# Altium integrated library TI Data Converters Digital to Analog Converter.IntLib: 1533 symbols (part 89 of 99)
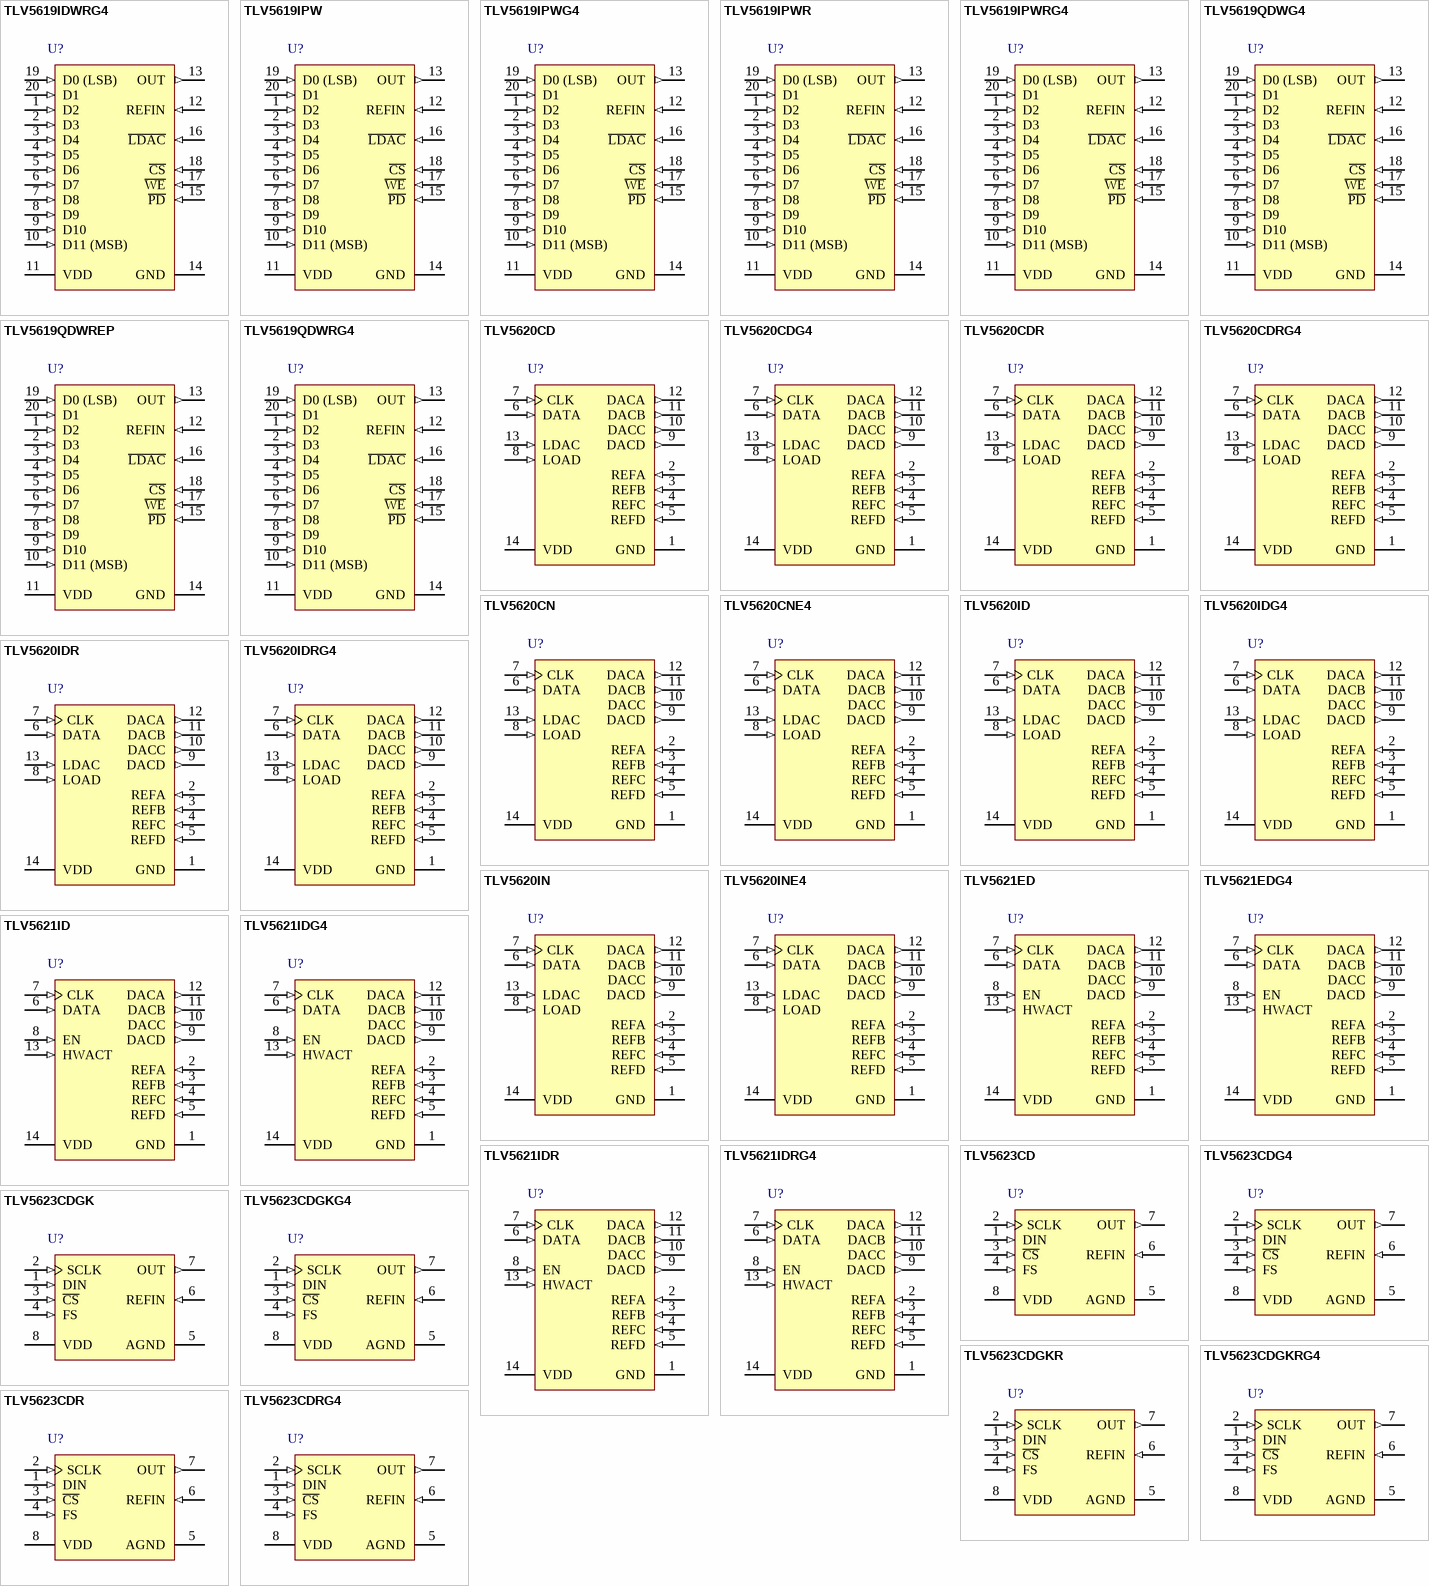
[diagram p161: symbols TLV5619IDWRG4 to TLV5623CDRG4]

## TLV5619IDWRG4
designator U?
12-Bit, Single Channel DAC, Parallel, Voltage Out, Low Power, Asynchronous Update, -40 to 85 degC, 20-pin SOIC (DW20), Green (RoHS & no Sb/Br); Manufacturer: Texas Instruments; PartNumber: TLV5619IDWRG4; DAC Channels: 1; INL(Max)(+/-LSB): 4; Power Consumption(Typ)(mW): 4.3; Resolution(Bits): 12; SFDR(dB): 72; SNR(dB): 78; SubFamily: Precision DAC (=<10MSPS); DatasheetVersion: SLAS172F; PackageVersion: 4040000-4/G, 01/2011; PackageReference: DW20; PackageDescription: 20-Pin Plastic Small Outline, Body 12.8 x 7.5 mm, Pitch 1.27 mm; Supplier 1: Digi-Key; Supplier Part Number 1: TLV5619IDWRG4-ND; Supplier 2: Mouser; Supplier Part Number 2: 595-TLV5619IDWRG4; DNL(Max)(+/-LSB): 1; Eco-Plan: Green (RoHS & no Sb/Br); Interface: Parallel; Settling Time(us): 1; Mounting Technology: Surface Mount; Code_JEDEC: MO-013; ComponentLink1Description: Manufacturer URL; ComponentLink1URL: http://www.ti.com/; ComponentLink2Description: Datasheet; ComponentLink2URL: http://www.ti.com/general/docs/lit/getliterature.tsp?genericPartNumber=TLV5619&fileType=pdf; ComponentLink3Description: Package Specification; ComponentLink3URL: http://www.ti.com/lit/ml/mpds173a/mpds173a.pdf
footprint TI-DW20_N (SOIC, 20-Leads, Body 12.8x7.5mm, Pitch 1.27mm, IPC Medium Density)
footprint TI-DW20_L (SOIC, 20-Leads, Body 12.8x7.5mm, Pitch 1.27mm, IPC High Density)
footprint TI-DW20_M (SOIC, 20-Leads, Body 12.8x7.5mm, Pitch 1.27mm, IPC Low Density)
pins: 1 D2 (in) "Parallel data input", 2 D3 (in) "Parallel data input", 3 D4 (in) "Parallel data input", 4 D5 (in) "Parallel data input", 5 D6 (in) "Parallel data input", 6 D7 (in) "Parallel data input", 7 D8 (in) "Parallel data input", 8 D9 (in) "Parallel data input", 9 D10 (in) "Parallel data input", 10 D11 (MSB) (in) "Parallel data input", 11 VDD (power) "Positive power supply", 12 REFIN (in) "Voltage reference input", 13 OUT (out) "Analog output", 14 GND (power) "Ground", 15 ~{PD} (in) "When low, disables all buffer amplifier voltages to reduce supply current", 16 ~{LDAC} (in) "Load DAC", 17 ~{WE} (in) "Write enable", 18 ~{CS} (in) "Chip select", 19 D0 (LSB) (in) "Parallel data input", 20 D1 (in) "Parallel data input"

## TLV5619IPW
designator U?
12-Bit, Single Channel DAC, Parallel, Voltage Out, Low Power, Asynchronous Update, -40 to 85 degC, 20-pin SOP (PW20), Green (RoHS & no Sb/Br); Manufacturer: Texas Instruments; PartNumber: TLV5619IPW; DAC Channels: 1; INL(Max)(+/-LSB): 4; Power Consumption(Typ)(mW): 4.3; Resolution(Bits): 12; SFDR(dB): 72; SNR(dB): 78; SubFamily: Precision DAC (=<10MSPS); DatasheetVersion: SLAS172F; PackageVersion: 4040064-5/G, 02/2011; PackageReference: PW20; PackageDescription: 20-Pin Plastic Small Outline, Body 6.5 x 4.4 mm, Pitch 0.65 mm; Supplier 1: Digi-Key; Supplier Part Number 1: 296-2305-5-ND; Supplier 2: Mouser; Supplier Part Number 2: 595-TLV5619IPW; DNL(Max)(+/-LSB): 1; Eco-Plan: Green (RoHS & no Sb/Br); Interface: Parallel; Settling Time(us): 1; Mounting Technology: Surface Mount; Code_JEDEC: MO-153; ComponentLink1Description: Manufacturer URL; ComponentLink1URL: http://www.ti.com/; ComponentLink2Description: Datasheet; ComponentLink2URL: http://www.ti.com/general/docs/lit/getliterature.tsp?genericPartNumber=TLV5619&fileType=pdf; ComponentLink3Description: Package Specification; ComponentLink3URL: http://www.ti.com.cn/cn/lit/ml/mpds362/mpds362.pdf
footprint TI-PW20_N (SOP, 20-Leads, Body 6.5x4.4mm, Pitch 0.65mm, IPC Medium Density)
footprint TI-PW20_L (SOP, 20-Leads, Body 6.5x4.4mm, Pitch 0.65mm, IPC High Density)
footprint TI-PW20_M (SOP, 20-Leads, Body 6.5x4.4mm, Pitch 0.65mm, IPC Low Density)
pins: 1 D2 (in) "Parallel data input", 2 D3 (in) "Parallel data input", 3 D4 (in) "Parallel data input", 4 D5 (in) "Parallel data input", 5 D6 (in) "Parallel data input", 6 D7 (in) "Parallel data input", 7 D8 (in) "Parallel data input", 8 D9 (in) "Parallel data input", 9 D10 (in) "Parallel data input", 10 D11 (MSB) (in) "Parallel data input", 11 VDD (power) "Positive power supply", 12 REFIN (in) "Voltage reference input", 13 OUT (out) "Analog output", 14 GND (power) "Ground", 15 ~{PD} (in) "When low, disables all buffer amplifier voltages to reduce supply current", 16 ~{LDAC} (in) "Load DAC", 17 ~{WE} (in) "Write enable", 18 ~{CS} (in) "Chip select", 19 D0 (LSB) (in) "Parallel data input", 20 D1 (in) "Parallel data input"

## TLV5619IPWG4
designator U?
12-Bit, Single Channel DAC, Parallel, Voltage Out, Low Power, Asynchronous Update, -40 to 85 degC, 20-pin SOP (PW20), Green (RoHS & no Sb/Br); Manufacturer: Texas Instruments; PartNumber: TLV5619IPWG4; DAC Channels: 1; INL(Max)(+/-LSB): 4; Power Consumption(Typ)(mW): 4.3; Resolution(Bits): 12; SFDR(dB): 72; SNR(dB): 78; SubFamily: Precision DAC (=<10MSPS); DatasheetVersion: SLAS172F; PackageVersion: 4040064-5/G, 02/2011; PackageReference: PW20; PackageDescription: 20-Pin Plastic Small Outline, Body 6.5 x 4.4 mm, Pitch 0.65 mm; Supplier 1: Digi-Key; Supplier Part Number 1: TLV5619IPWG4-ND; Supplier 2: Mouser; Supplier Part Number 2: 595-TLV5619IPWG4; DNL(Max)(+/-LSB): 1; Eco-Plan: Green (RoHS & no Sb/Br); Interface: Parallel; Settling Time(us): 1; Mounting Technology: Surface Mount; Code_JEDEC: MO-153; ComponentLink1Description: Manufacturer URL; ComponentLink1URL: http://www.ti.com/; ComponentLink2Description: Datasheet; ComponentLink2URL: http://www.ti.com/general/docs/lit/getliterature.tsp?genericPartNumber=TLV5619&fileType=pdf; ComponentLink3Description: Package Specification; ComponentLink3URL: http://www.ti.com.cn/cn/lit/ml/mpds362/mpds362.pdf
footprint TI-PW20_N (SOP, 20-Leads, Body 6.5x4.4mm, Pitch 0.65mm, IPC Medium Density)
footprint TI-PW20_L (SOP, 20-Leads, Body 6.5x4.4mm, Pitch 0.65mm, IPC High Density)
footprint TI-PW20_M (SOP, 20-Leads, Body 6.5x4.4mm, Pitch 0.65mm, IPC Low Density)
pins: 1 D2 (in) "Parallel data input", 2 D3 (in) "Parallel data input", 3 D4 (in) "Parallel data input", 4 D5 (in) "Parallel data input", 5 D6 (in) "Parallel data input", 6 D7 (in) "Parallel data input", 7 D8 (in) "Parallel data input", 8 D9 (in) "Parallel data input", 9 D10 (in) "Parallel data input", 10 D11 (MSB) (in) "Parallel data input", 11 VDD (power) "Positive power supply", 12 REFIN (in) "Voltage reference input", 13 OUT (out) "Analog output", 14 GND (power) "Ground", 15 ~{PD} (in) "When low, disables all buffer amplifier voltages to reduce supply current", 16 ~{LDAC} (in) "Load DAC", 17 ~{WE} (in) "Write enable", 18 ~{CS} (in) "Chip select", 19 D0 (LSB) (in) "Parallel data input", 20 D1 (in) "Parallel data input"

## TLV5619IPWR
designator U?
12-Bit, Single Channel DAC, Parallel, Voltage Out, Low Power, Asynchronous Update, -40 to 85 degC, 20-pin SOP (PW20), Green (RoHS & no Sb/Br); Manufacturer: Texas Instruments; PartNumber: TLV5619IPWR; DAC Channels: 1; INL(Max)(+/-LSB): 4; Power Consumption(Typ)(mW): 4.3; Resolution(Bits): 12; SFDR(dB): 72; SNR(dB): 78; SubFamily: Precision DAC (=<10MSPS); DatasheetVersion: SLAS172F; PackageVersion: 4040064-5/G, 02/2011; PackageReference: PW20; PackageDescription: 20-Pin Plastic Small Outline, Body 6.5 x 4.4 mm, Pitch 0.65 mm; Supplier 1: Digi-Key; Supplier Part Number 1: TLV5619IPWR-ND; Supplier 2: Mouser; Supplier Part Number 2: 595-TLV5619IPWR; DNL(Max)(+/-LSB): 1; Eco-Plan: Green (RoHS & no Sb/Br); Interface: Parallel; Settling Time(us): 1; Mounting Technology: Surface Mount; Code_JEDEC: MO-153; ComponentLink1Description: Manufacturer URL; ComponentLink1URL: http://www.ti.com/; ComponentLink2Description: Datasheet; ComponentLink2URL: http://www.ti.com/general/docs/lit/getliterature.tsp?genericPartNumber=TLV5619&fileType=pdf; ComponentLink3Description: Package Specification; ComponentLink3URL: http://www.ti.com.cn/cn/lit/ml/mpds362/mpds362.pdf
footprint TI-PW20_N (SOP, 20-Leads, Body 6.5x4.4mm, Pitch 0.65mm, IPC Medium Density)
footprint TI-PW20_L (SOP, 20-Leads, Body 6.5x4.4mm, Pitch 0.65mm, IPC High Density)
footprint TI-PW20_M (SOP, 20-Leads, Body 6.5x4.4mm, Pitch 0.65mm, IPC Low Density)
pins: 1 D2 (in) "Parallel data input", 2 D3 (in) "Parallel data input", 3 D4 (in) "Parallel data input", 4 D5 (in) "Parallel data input", 5 D6 (in) "Parallel data input", 6 D7 (in) "Parallel data input", 7 D8 (in) "Parallel data input", 8 D9 (in) "Parallel data input", 9 D10 (in) "Parallel data input", 10 D11 (MSB) (in) "Parallel data input", 11 VDD (power) "Positive power supply", 12 REFIN (in) "Voltage reference input", 13 OUT (out) "Analog output", 14 GND (power) "Ground", 15 ~{PD} (in) "When low, disables all buffer amplifier voltages to reduce supply current", 16 ~{LDAC} (in) "Load DAC", 17 ~{WE} (in) "Write enable", 18 ~{CS} (in) "Chip select", 19 D0 (LSB) (in) "Parallel data input", 20 D1 (in) "Parallel data input"

## TLV5619IPWRG4
designator U?
12-Bit, Single Channel DAC, Parallel, Voltage Out, Low Power, Asynchronous Update, -40 to 85 degC, 20-pin SOP (PW20), Green (RoHS & no Sb/Br); Manufacturer: Texas Instruments; PartNumber: TLV5619IPWRG4; DAC Channels: 1; INL(Max)(+/-LSB): 4; Power Consumption(Typ)(mW): 4.3; Resolution(Bits): 12; SFDR(dB): 72; SNR(dB): 78; SubFamily: Precision DAC (=<10MSPS); DatasheetVersion: SLAS172F; PackageVersion: 4040064-5/G, 02/2011; PackageReference: PW20; PackageDescription: 20-Pin Plastic Small Outline, Body 6.5 x 4.4 mm, Pitch 0.65 mm; Supplier 1: Digi-Key; Supplier Part Number 1: TLV5619IPWRG4-ND; Supplier 2: Mouser; Supplier Part Number 2: 595-TLV5619IPWRG4; DNL(Max)(+/-LSB): 1; Eco-Plan: Green (RoHS & no Sb/Br); Interface: Parallel; Settling Time(us): 1; Mounting Technology: Surface Mount; Code_JEDEC: MO-153; ComponentLink1Description: Manufacturer URL; ComponentLink1URL: http://www.ti.com/; ComponentLink2Description: Datasheet; ComponentLink2URL: http://www.ti.com/general/docs/lit/getliterature.tsp?genericPartNumber=TLV5619&fileType=pdf; ComponentLink3Description: Package Specification; ComponentLink3URL: http://www.ti.com.cn/cn/lit/ml/mpds362/mpds362.pdf
footprint TI-PW20_N (SOP, 20-Leads, Body 6.5x4.4mm, Pitch 0.65mm, IPC Medium Density)
footprint TI-PW20_L (SOP, 20-Leads, Body 6.5x4.4mm, Pitch 0.65mm, IPC High Density)
footprint TI-PW20_M (SOP, 20-Leads, Body 6.5x4.4mm, Pitch 0.65mm, IPC Low Density)
pins: 1 D2 (in) "Parallel data input", 2 D3 (in) "Parallel data input", 3 D4 (in) "Parallel data input", 4 D5 (in) "Parallel data input", 5 D6 (in) "Parallel data input", 6 D7 (in) "Parallel data input", 7 D8 (in) "Parallel data input", 8 D9 (in) "Parallel data input", 9 D10 (in) "Parallel data input", 10 D11 (MSB) (in) "Parallel data input", 11 VDD (power) "Positive power supply", 12 REFIN (in) "Voltage reference input", 13 OUT (out) "Analog output", 14 GND (power) "Ground", 15 ~{PD} (in) "When low, disables all buffer amplifier voltages to reduce supply current", 16 ~{LDAC} (in) "Load DAC", 17 ~{WE} (in) "Write enable", 18 ~{CS} (in) "Chip select", 19 D0 (LSB) (in) "Parallel data input", 20 D1 (in) "Parallel data input"

## TLV5619QDWG4
designator U?
12-Bit, Single Channel DAC, Parallel, Voltage Out, Low Power, Asynchronous Update, -40 to 125 degC, 20-pin SOIC (DW20), Green (RoHS & no Sb/Br); Manufacturer: Texas Instruments; PartNumber: TLV5619QDWG4; DAC Channels: 1; INL(Max)(+/-LSB): 4; Power Consumption(Typ)(mW): 4.3; Resolution(Bits): 12; SFDR(dB): 72; SNR(dB): 78; SubFamily: Precision DAC (=<10MSPS); DatasheetVersion: SLAS172F; PackageVersion: 4040000-4/G, 01/2011; PackageReference: DW20; PackageDescription: 20-Pin Plastic Small Outline, Body 12.8 x 7.5 mm, Pitch 1.27 mm; Supplier 1: Digi-Key; Supplier Part Number 1: 296-34495-5-ND; Supplier 2: Mouser; Supplier Part Number 2: 595-TLV5619QDWG4; DNL(Max)(+/-LSB): 1; Eco-Plan: Green (RoHS & no Sb/Br); Interface: Parallel; Settling Time(us): 1; Mounting Technology: Surface Mount; Code_JEDEC: MO-013; ComponentLink1Description: Manufacturer URL; ComponentLink1URL: http://www.ti.com/; ComponentLink2Description: Datasheet; ComponentLink2URL: http://www.ti.com/general/docs/lit/getliterature.tsp?genericPartNumber=TLV5619&fileType=pdf; ComponentLink3Description: Package Specification; ComponentLink3URL: http://www.ti.com/lit/ml/mpds173a/mpds173a.pdf
footprint TI-DW20_N (SOIC, 20-Leads, Body 12.8x7.5mm, Pitch 1.27mm, IPC Medium Density)
footprint TI-DW20_L (SOIC, 20-Leads, Body 12.8x7.5mm, Pitch 1.27mm, IPC High Density)
footprint TI-DW20_M (SOIC, 20-Leads, Body 12.8x7.5mm, Pitch 1.27mm, IPC Low Density)
pins: 1 D2 (in) "Parallel data input", 2 D3 (in) "Parallel data input", 3 D4 (in) "Parallel data input", 4 D5 (in) "Parallel data input", 5 D6 (in) "Parallel data input", 6 D7 (in) "Parallel data input", 7 D8 (in) "Parallel data input", 8 D9 (in) "Parallel data input", 9 D10 (in) "Parallel data input", 10 D11 (MSB) (in) "Parallel data input", 11 VDD (power) "Positive power supply", 12 REFIN (in) "Voltage reference input", 13 OUT (out) "Analog output", 14 GND (power) "Ground", 15 ~{PD} (in) "When low, disables all buffer amplifier voltages to reduce supply current", 16 ~{LDAC} (in) "Load DAC", 17 ~{WE} (in) "Write enable", 18 ~{CS} (in) "Chip select", 19 D0 (LSB) (in) "Parallel data input", 20 D1 (in) "Parallel data input"

## TLV5619QDWREP
designator U?
Enhanced Product 12-Bit, Single Channel DAC, Parallel, Voltage Out, Low Power, -40 to 125 degC, 20-pin SOIC (DW20), Green (RoHS & no Sb/Br); Manufacturer: Texas Instruments; PartNumber: TLV5619QDWREP; DAC Channels: 1; INL(Max)(+/-LSB): 4; Power Consumption(Typ)(mW): 4.3; Resolution(Bits): 12; SFDR(dB): 72; SNR(dB): 78; SubFamily: Precision DAC (=<10MSPS); DatasheetVersion: SGLS124A; PackageVersion: 4040000-4/G, 01/2011; PackageReference: DW20; PackageDescription: 20-Pin Plastic Small Outline, Body 12.8 x 7.5 mm, Pitch 1.27 mm; Supplier 1: Digi-Key; Supplier Part Number 1: 296-18148-2-ND; Supplier 2: Digi-Key; Supplier Part Number 2: 296-18148-1-ND; Supplier 3: Digi-Key; Supplier Part Number 3: 296-18148-6-ND; Supplier 4: Mouser; Supplier Part Number 4: 595-TLV5619QDWREP; DNL(Max)(+/-LSB): 1; Eco-Plan: Green (RoHS & no Sb/Br); Interface: Parallel; Settling Time(us): 1; Mounting Technology: Surface Mount; Code_JEDEC: MO-013; ComponentLink1Description: Manufacturer URL; ComponentLink1URL: http://www.ti.com/; ComponentLink2Description: Datasheet; ComponentLink2URL: http://www.ti.com/general/docs/lit/getliterature.tsp?genericPartNumber=TLV5619-EP&fileType=pdf; ComponentLink3Description: Package Specification; ComponentLink3URL: http://www.ti.com/lit/ml/mpds173a/mpds173a.pdf
footprint TI-DW20_N (SOIC, 20-Leads, Body 12.8x7.5mm, Pitch 1.27mm, IPC Medium Density)
footprint TI-DW20_L (SOIC, 20-Leads, Body 12.8x7.5mm, Pitch 1.27mm, IPC High Density)
footprint TI-DW20_M (SOIC, 20-Leads, Body 12.8x7.5mm, Pitch 1.27mm, IPC Low Density)
pins: 1 D2 (in) "Parallel data input", 2 D3 (in) "Parallel data input", 3 D4 (in) "Parallel data input", 4 D5 (in) "Parallel data input", 5 D6 (in) "Parallel data input", 6 D7 (in) "Parallel data input", 7 D8 (in) "Parallel data input", 8 D9 (in) "Parallel data input", 9 D10 (in) "Parallel data input", 10 D11 (MSB) (in) "Parallel data input", 11 VDD (power) "Positive power supply", 12 REFIN (in) "Voltage reference input", 13 OUT (out) "Analog output", 14 GND (power) "Ground", 15 ~{PD} (in) "When low, disables all buffer amplifier voltages to reduce supply current", 16 ~{LDAC} (in) "Load DAC", 17 ~{WE} (in) "Write enable", 18 ~{CS} (in) "Chip select", 19 D0 (LSB) (in) "Parallel data input", 20 D1 (in) "Parallel data input"

## TLV5619QDWRG4
designator U?
12-Bit, Single Channel DAC, Parallel, Voltage Out, Low Power, Asynchronous Update, -40 to 125 degC, 20-pin SOIC (DW20), Green (RoHS & no Sb/Br); Manufacturer: Texas Instruments; PartNumber: TLV5619QDWRG4; DAC Channels: 1; INL(Max)(+/-LSB): 4; Power Consumption(Typ)(mW): 4.3; Resolution(Bits): 12; SFDR(dB): 72; SNR(dB): 78; SubFamily: Precision DAC (=<10MSPS); DatasheetVersion: SLAS172F; PackageVersion: 4040000-4/G, 01/2011; PackageReference: DW20; PackageDescription: 20-Pin Plastic Small Outline, Body 12.8 x 7.5 mm, Pitch 1.27 mm; Supplier 1: Digi-Key; Supplier Part Number 1: TLV5619QDWRG4-ND; Supplier 2: Mouser; Supplier Part Number 2: 595-TLV5619QDWRG4; DNL(Max)(+/-LSB): 1; Eco-Plan: Green (RoHS & no Sb/Br); Interface: Parallel; Settling Time(us): 1; Mounting Technology: Surface Mount; Code_JEDEC: MO-013; ComponentLink1Description: Manufacturer URL; ComponentLink1URL: http://www.ti.com/; ComponentLink2Description: Datasheet; ComponentLink2URL: http://www.ti.com/general/docs/lit/getliterature.tsp?genericPartNumber=TLV5619&fileType=pdf; ComponentLink3Description: Package Specification; ComponentLink3URL: http://www.ti.com/lit/ml/mpds173a/mpds173a.pdf
footprint TI-DW20_N (SOIC, 20-Leads, Body 12.8x7.5mm, Pitch 1.27mm, IPC Medium Density)
footprint TI-DW20_L (SOIC, 20-Leads, Body 12.8x7.5mm, Pitch 1.27mm, IPC High Density)
footprint TI-DW20_M (SOIC, 20-Leads, Body 12.8x7.5mm, Pitch 1.27mm, IPC Low Density)
pins: 1 D2 (in) "Parallel data input", 2 D3 (in) "Parallel data input", 3 D4 (in) "Parallel data input", 4 D5 (in) "Parallel data input", 5 D6 (in) "Parallel data input", 6 D7 (in) "Parallel data input", 7 D8 (in) "Parallel data input", 8 D9 (in) "Parallel data input", 9 D10 (in) "Parallel data input", 10 D11 (MSB) (in) "Parallel data input", 11 VDD (power) "Positive power supply", 12 REFIN (in) "Voltage reference input", 13 OUT (out) "Analog output", 14 GND (power) "Ground", 15 ~{PD} (in) "When low, disables all buffer amplifier voltages to reduce supply current", 16 ~{LDAC} (in) "Load DAC", 17 ~{WE} (in) "Write enable", 18 ~{CS} (in) "Chip select", 19 D0 (LSB) (in) "Parallel data input", 20 D1 (in) "Parallel data input"

## TLV5620CD
designator U?
8-Bit, 10 us DAC, Serial Input, Quad DAC, Programmable 1 x or 2 x Output, Simultaneous Update, 0 to 70 degC, 14-pin SOIC (D14), Green (RoHS & no Sb/Br); Manufacturer: Texas Instruments; PartNumber: TLV5620CD; DAC Channels: 4; DNL(Max)(+/-LSB): 0.9; INL(Max)(+/-LSB): 1; Interface: Serial SPI; Power Consumption(Typ)(mW): 6; Resolution(Bits): 8; Settling Time(us): 10; SubFamily: Precision DAC (=<10MSPS); DatasheetVersion: SLAS110B; PackageVersion: 4040047-5/M, 06/2011; PackageReference: D14; PackageDescription: 14-Pin Plastic Small Outline, Body 8.65 x 3.9 mm, Pitch 1.27 mm; Supplier 1: Digi-Key; Supplier Part Number 1: 296-3047-5-ND; Supplier 2: Farnell; Supplier Part Number 2: 8455694; Supplier 3: Newark; Supplier Part Number 3: 35K1252; Supplier 4: Mouser; Supplier Part Number 4: 595-TLV5620CD; Eco-Plan: Green (RoHS & no Sb/Br); Mounting Technology: Surface Mount; Code_JEDEC: MS-012; ComponentLink1Description: Manufacturer URL; ComponentLink1URL: http://www.ti.com/; ComponentLink2Description: Datasheet; ComponentLink2URL: http://www.ti.com/general/docs/lit/getliterature.tsp?genericPartNumber=TLV5620&fileType=pdf; ComponentLink3Description: Package Specification; ComponentLink3URL: http://www.ti.com/lit/ml/mpds177g/mpds177g.pdf
footprint TI-D14_N (SOIC, 14-Leads, Body 8.65x3.9mm, Pitch 1.27mm, IPC Medium Density)
footprint TI-D14_L (SOIC, 14-Leads, Body 8.65x3.9mm, Pitch 1.27mm, IPC High Density)
footprint TI-D14_M (SOIC, 14-Leads, Body 8.65x3.9mm, Pitch 1.27mm, IPC Low Density)
pins: 1 GND (power) "Ground return and reference", 2 REFA (in) "Reference voltage input to DAC A. This voltage defines the output analog range.", 3 REFB (in) "Reference voltage input to DAC B. This voltage defines the output analog range.", 4 REFC (in) "Reference voltage input to DAC C. This voltage defines the output analog range.", 5 REFD (in) "Reference voltage input to DAC D. This voltage defines the output analog range.", 6 DATA (in) "Serial interface digital data input. The digital code for the DAC is clocked into the serial interface register serially. Each data bit is clocked into the register on the falling edge of the clock signal.", 7 CLK (in) "Serial interface clock. The input digital data is shifted into the serial interface register on the falling edge of the clock applied to the CLK terminal.", 8 LOAD (in) "Serial interface load control. When the LDAC terminal is low, the falling edge of the LOAD signal latches the digital data into the output latch and immediately produces the analog voltage at the DAC output terminal.", 9 DACD (out) "DAC D analog output", 10 DACC (out) "DAC C analog output", 11 DACB (out) "DAC B analog output", 12 DACA (out) "DAC A analog output", 13 LDAC (in) "Load DAC. When this signal is high, no DAC output updates occur when the input digital data is read into the serial interface. The DAC outputs are only updated when LDAC is taken from high to low.", 14 VDD (power) "Positive supply voltage"

## TLV5620CDG4
designator U?
8-Bit, 10 us DAC, Serial Input, Quad DAC, Programmable 1 x or 2 x Output, Simultaneous Update, 0 to 70 degC, 14-pin SOIC (D14), Green (RoHS & no Sb/Br); Manufacturer: Texas Instruments; PartNumber: TLV5620CDG4; DAC Channels: 4; DNL(Max)(+/-LSB): 0.9; INL(Max)(+/-LSB): 1; Interface: Serial SPI; Power Consumption(Typ)(mW): 6; Resolution(Bits): 8; Settling Time(us): 10; SubFamily: Precision DAC (=<10MSPS); DatasheetVersion: SLAS110B; PackageVersion: 4040047-5/M, 06/2011; PackageReference: D14; PackageDescription: 14-Pin Plastic Small Outline, Body 8.65 x 3.9 mm, Pitch 1.27 mm; Supplier 1: Digi-Key; Supplier Part Number 1: TLV5620CDG4-ND; Supplier 2: Newark; Supplier Part Number 2: 54K1391; Supplier 3: Mouser; Supplier Part Number 3: 595-TLV5620CDG4; Eco-Plan: Green (RoHS & no Sb/Br); Mounting Technology: Surface Mount; Code_JEDEC: MS-012; ComponentLink1Description: Manufacturer URL; ComponentLink1URL: http://www.ti.com/; ComponentLink2Description: Datasheet; ComponentLink2URL: http://www.ti.com/general/docs/lit/getliterature.tsp?genericPartNumber=TLV5620&fileType=pdf; ComponentLink3Description: Package Specification; ComponentLink3URL: http://www.ti.com/lit/ml/mpds177g/mpds177g.pdf
footprint TI-D14_N (SOIC, 14-Leads, Body 8.65x3.9mm, Pitch 1.27mm, IPC Medium Density)
footprint TI-D14_L (SOIC, 14-Leads, Body 8.65x3.9mm, Pitch 1.27mm, IPC High Density)
footprint TI-D14_M (SOIC, 14-Leads, Body 8.65x3.9mm, Pitch 1.27mm, IPC Low Density)
pins: 1 GND (power) "Ground return and reference", 2 REFA (in) "Reference voltage input to DAC A. This voltage defines the output analog range.", 3 REFB (in) "Reference voltage input to DAC B. This voltage defines the output analog range.", 4 REFC (in) "Reference voltage input to DAC C. This voltage defines the output analog range.", 5 REFD (in) "Reference voltage input to DAC D. This voltage defines the output analog range.", 6 DATA (in) "Serial interface digital data input. The digital code for the DAC is clocked into the serial interface register serially. Each data bit is clocked into the register on the falling edge of the clock signal.", 7 CLK (in) "Serial interface clock. The input digital data is shifted into the serial interface register on the falling edge of the clock applied to the CLK terminal.", 8 LOAD (in) "Serial interface load control. When the LDAC terminal is low, the falling edge of the LOAD signal latches the digital data into the output latch and immediately produces the analog voltage at the DAC output terminal.", 9 DACD (out) "DAC D analog output", 10 DACC (out) "DAC C analog output", 11 DACB (out) "DAC B analog output", 12 DACA (out) "DAC A analog output", 13 LDAC (in) "Load DAC. When this signal is high, no DAC output updates occur when the input digital data is read into the serial interface. The DAC outputs are only updated when LDAC is taken from high to low.", 14 VDD (power) "Positive supply voltage"

## TLV5620CDR
designator U?
8-Bit, 10 us DAC, Serial Input, Quad DAC, Programmable 1 x or 2 x Output, Simultaneous Update, 0 to 70 degC, 14-pin SOIC (D14), Green (RoHS & no Sb/Br); Manufacturer: Texas Instruments; PartNumber: TLV5620CDR; DAC Channels: 4; DNL(Max)(+/-LSB): 0.9; INL(Max)(+/-LSB): 1; Interface: Serial SPI; Power Consumption(Typ)(mW): 6; Resolution(Bits): 8; Settling Time(us): 10; SubFamily: Precision DAC (=<10MSPS); DatasheetVersion: SLAS110B; PackageVersion: 4040047-5/M, 06/2011; PackageReference: D14; PackageDescription: 14-Pin Plastic Small Outline, Body 8.65 x 3.9 mm, Pitch 1.27 mm; Supplier 1: Digi-Key; Supplier Part Number 1: TLV5620CDR-ND; Supplier 2: Mouser; Supplier Part Number 2: 595-TLV5620CDR; Eco-Plan: Green (RoHS & no Sb/Br); Mounting Technology: Surface Mount; Code_JEDEC: MS-012; ComponentLink1Description: Manufacturer URL; ComponentLink1URL: http://www.ti.com/; ComponentLink2Description: Datasheet; ComponentLink2URL: http://www.ti.com/general/docs/lit/getliterature.tsp?genericPartNumber=TLV5620&fileType=pdf; ComponentLink3Description: Package Specification; ComponentLink3URL: http://www.ti.com/lit/ml/mpds177g/mpds177g.pdf
footprint TI-D14_N (SOIC, 14-Leads, Body 8.65x3.9mm, Pitch 1.27mm, IPC Medium Density)
footprint TI-D14_L (SOIC, 14-Leads, Body 8.65x3.9mm, Pitch 1.27mm, IPC High Density)
footprint TI-D14_M (SOIC, 14-Leads, Body 8.65x3.9mm, Pitch 1.27mm, IPC Low Density)
pins: 1 GND (power) "Ground return and reference", 2 REFA (in) "Reference voltage input to DAC A. This voltage defines the output analog range.", 3 REFB (in) "Reference voltage input to DAC B. This voltage defines the output analog range.", 4 REFC (in) "Reference voltage input to DAC C. This voltage defines the output analog range.", 5 REFD (in) "Reference voltage input to DAC D. This voltage defines the output analog range.", 6 DATA (in) "Serial interface digital data input. The digital code for the DAC is clocked into the serial interface register serially. Each data bit is clocked into the register on the falling edge of the clock signal.", 7 CLK (in) "Serial interface clock. The input digital data is shifted into the serial interface register on the falling edge of the clock applied to the CLK terminal.", 8 LOAD (in) "Serial interface load control. When the LDAC terminal is low, the falling edge of the LOAD signal latches the digital data into the output latch and immediately produces the analog voltage at the DAC output terminal.", 9 DACD (out) "DAC D analog output", 10 DACC (out) "DAC C analog output", 11 DACB (out) "DAC B analog output", 12 DACA (out) "DAC A analog output", 13 LDAC (in) "Load DAC. When this signal is high, no DAC output updates occur when the input digital data is read into the serial interface. The DAC outputs are only updated when LDAC is taken from high to low.", 14 VDD (power) "Positive supply voltage"

## TLV5620CDRG4
designator U?
8-Bit, 10 us DAC, Serial Input, Quad DAC, Programmable 1 x or 2 x Output, Simultaneous Update, 0 to 70 degC, 14-pin SOIC (D14), Green (RoHS & no Sb/Br); Manufacturer: Texas Instruments; PartNumber: TLV5620CDRG4; DAC Channels: 4; DNL(Max)(+/-LSB): 0.9; INL(Max)(+/-LSB): 1; Interface: Serial SPI; Power Consumption(Typ)(mW): 6; Resolution(Bits): 8; Settling Time(us): 10; SubFamily: Precision DAC (=<10MSPS); DatasheetVersion: SLAS110B; PackageVersion: 4040047-5/M, 06/2011; PackageReference: D14; PackageDescription: 14-Pin Plastic Small Outline, Body 8.65 x 3.9 mm, Pitch 1.27 mm; Supplier 1: Digi-Key; Supplier Part Number 1: TLV5620CDRG4-ND; Supplier 2: Mouser; Supplier Part Number 2: 595-TLV5620CDRG4; Eco-Plan: Green (RoHS & no Sb/Br); Mounting Technology: Surface Mount; Code_JEDEC: MS-012; ComponentLink1Description: Manufacturer URL; ComponentLink1URL: http://www.ti.com/; ComponentLink2Description: Datasheet; ComponentLink2URL: http://www.ti.com/general/docs/lit/getliterature.tsp?genericPartNumber=TLV5620&fileType=pdf; ComponentLink3Description: Package Specification; ComponentLink3URL: http://www.ti.com/lit/ml/mpds177g/mpds177g.pdf
footprint TI-D14_N (SOIC, 14-Leads, Body 8.65x3.9mm, Pitch 1.27mm, IPC Medium Density)
footprint TI-D14_L (SOIC, 14-Leads, Body 8.65x3.9mm, Pitch 1.27mm, IPC High Density)
footprint TI-D14_M (SOIC, 14-Leads, Body 8.65x3.9mm, Pitch 1.27mm, IPC Low Density)
pins: 1 GND (power) "Ground return and reference", 2 REFA (in) "Reference voltage input to DAC A. This voltage defines the output analog range.", 3 REFB (in) "Reference voltage input to DAC B. This voltage defines the output analog range.", 4 REFC (in) "Reference voltage input to DAC C. This voltage defines the output analog range.", 5 REFD (in) "Reference voltage input to DAC D. This voltage defines the output analog range.", 6 DATA (in) "Serial interface digital data input. The digital code for the DAC is clocked into the serial interface register serially. Each data bit is clocked into the register on the falling edge of the clock signal.", 7 CLK (in) "Serial interface clock. The input digital data is shifted into the serial interface register on the falling edge of the clock applied to the CLK terminal.", 8 LOAD (in) "Serial interface load control. When the LDAC terminal is low, the falling edge of the LOAD signal latches the digital data into the output latch and immediately produces the analog voltage at the DAC output terminal.", 9 DACD (out) "DAC D analog output", 10 DACC (out) "DAC C analog output", 11 DACB (out) "DAC B analog output", 12 DACA (out) "DAC A analog output", 13 LDAC (in) "Load DAC. When this signal is high, no DAC output updates occur when the input digital data is read into the serial interface. The DAC outputs are only updated when LDAC is taken from high to low.", 14 VDD (power) "Positive supply voltage"

## TLV5620CN
designator U?
8-Bit, 10 us DAC, Serial Input, Quad DAC, Programmable 1 x or 2 x Output, Simultaneous Update, 0 to 70 degC, 14-pin DIP (N14), Pb-Free (RoHS); Manufacturer: Texas Instruments; PartNumber: TLV5620CN; DAC Channels: 4; DNL(Max)(+/-LSB): 0.9; INL(Max)(+/-LSB): 1; Interface: Serial SPI; Power Consumption(Typ)(mW): 6; Resolution(Bits): 8; Settling Time(us): 10; SubFamily: Precision DAC (=<10MSPS); DatasheetVersion: SLAS110B; PackageVersion: 4040049/E, 12/2002; PackageReference: N14; PackageDescription: 14-Pin Plastic In-Line, Body 19.305 x 6.35 mm, Pitch 2.54 mm; Supplier 1: Digi-Key; Supplier Part Number 1: 296-2306-5-ND; Supplier 2: Farnell; Supplier Part Number 2: 8455708; Supplier 3: Newark; Supplier Part Number 3: 35K1253; Supplier 4: Mouser; Supplier Part Number 4: 595-TLV5620CN; Eco-Plan: Pb-Free (RoHS); Mounting Technology: Through Hole; Code_JEDEC: MS-001; ComponentLink1Description: Manufacturer URL; ComponentLink1URL: http://www.ti.com/; ComponentLink2Description: Datasheet; ComponentLink2URL: http://www.ti.com/general/docs/lit/getliterature.tsp?genericPartNumber=TLV5620&fileType=pdf; ComponentLink3Description: Package Specification; ComponentLink3URL: http://www.ti.com/lit/ml/mpdi002c/mpdi002c.pdf
footprint TI-N14 (DIP, 14-Leads, Body 19.305x6.35mm, Pitch 2.54mm)
pins: 1 GND (power) "Ground return and reference", 2 REFA (in) "Reference voltage input to DAC A. This voltage defines the output analog range.", 3 REFB (in) "Reference voltage input to DAC B. This voltage defines the output analog range.", 4 REFC (in) "Reference voltage input to DAC C. This voltage defines the output analog range.", 5 REFD (in) "Reference voltage input to DAC D. This voltage defines the output analog range.", 6 DATA (in) "Serial interface digital data input. The digital code for the DAC is clocked into the serial interface register serially. Each data bit is clocked into the register on the falling edge of the clock signal.", 7 CLK (in) "Serial interface clock. The input digital data is shifted into the serial interface register on the falling edge of the clock applied to the CLK terminal.", 8 LOAD (in) "Serial interface load control. When the LDAC terminal is low, the falling edge of the LOAD signal latches the digital data into the output latch and immediately produces the analog voltage at the DAC output terminal.", 9 DACD (out) "DAC D analog output", 10 DACC (out) "DAC C analog output", 11 DACB (out) "DAC B analog output", 12 DACA (out) "DAC A analog output", 13 LDAC (in) "Load DAC. When this signal is high, no DAC output updates occur when the input digital data is read into the serial interface. The DAC outputs are only updated when LDAC is taken from high to low.", 14 VDD (power) "Positive supply voltage"

## TLV5620CNE4
designator U?
8-Bit, 10 us DAC, Serial Input, Quad DAC, Programmable 1 x or 2 x Output, Simultaneous Update, 0 to 70 degC, 14-pin DIP (N14), Pb-Free (RoHS); Manufacturer: Texas Instruments; PartNumber: TLV5620CNE4; DAC Channels: 4; DNL(Max)(+/-LSB): 0.9; INL(Max)(+/-LSB): 1; Interface: Serial SPI; Power Consumption(Typ)(mW): 6; Resolution(Bits): 8; Settling Time(us): 10; SubFamily: Precision DAC (=<10MSPS); DatasheetVersion: SLAS110B; PackageVersion: 4040049/E, 12/2002; PackageReference: N14; PackageDescription: 14-Pin Plastic In-Line, Body 19.305 x 6.35 mm, Pitch 2.54 mm; Supplier 1: Digi-Key; Supplier Part Number 1: TLV5620CNE4-ND; Supplier 2: Mouser; Supplier Part Number 2: 595-TLV5620CNE4; Eco-Plan: Pb-Free (RoHS); Mounting Technology: Through Hole; Code_JEDEC: MS-001; ComponentLink1Description: Manufacturer URL; ComponentLink1URL: http://www.ti.com/; ComponentLink2Description: Datasheet; ComponentLink2URL: http://www.ti.com/general/docs/lit/getliterature.tsp?genericPartNumber=TLV5620&fileType=pdf; ComponentLink3Description: Package Specification; ComponentLink3URL: http://www.ti.com/lit/ml/mpdi002c/mpdi002c.pdf
footprint TI-N14 (DIP, 14-Leads, Body 19.305x6.35mm, Pitch 2.54mm)
pins: 1 GND (power) "Ground return and reference", 2 REFA (in) "Reference voltage input to DAC A. This voltage defines the output analog range.", 3 REFB (in) "Reference voltage input to DAC B. This voltage defines the output analog range.", 4 REFC (in) "Reference voltage input to DAC C. This voltage defines the output analog range.", 5 REFD (in) "Reference voltage input to DAC D. This voltage defines the output analog range.", 6 DATA (in) "Serial interface digital data input. The digital code for the DAC is clocked into the serial interface register serially. Each data bit is clocked into the register on the falling edge of the clock signal.", 7 CLK (in) "Serial interface clock. The input digital data is shifted into the serial interface register on the falling edge of the clock applied to the CLK terminal.", 8 LOAD (in) "Serial interface load control. When the LDAC terminal is low, the falling edge of the LOAD signal latches the digital data into the output latch and immediately produces the analog voltage at the DAC output terminal.", 9 DACD (out) "DAC D analog output", 10 DACC (out) "DAC C analog output", 11 DACB (out) "DAC B analog output", 12 DACA (out) "DAC A analog output", 13 LDAC (in) "Load DAC. When this signal is high, no DAC output updates occur when the input digital data is read into the serial interface. The DAC outputs are only updated when LDAC is taken from high to low.", 14 VDD (power) "Positive supply voltage"

## TLV5620ID
designator U?
8-Bit, 10 us DAC, Serial Input, Quad DAC, Programmable 1 x or 2 x Output, Simultaneous Update, -40 to 85 degC, 14-pin SOIC (D14), Green (RoHS & no Sb/Br); Manufacturer: Texas Instruments; PartNumber: TLV5620ID; DAC Channels: 4; DNL(Max)(+/-LSB): 0.9; INL(Max)(+/-LSB): 1; Interface: Serial SPI; Power Consumption(Typ)(mW): 6; Resolution(Bits): 8; Settling Time(us): 10; SubFamily: Precision DAC (=<10MSPS); DatasheetVersion: SLAS110B; PackageVersion: 4040047-5/M, 06/2011; PackageReference: D14; PackageDescription: 14-Pin Plastic Small Outline, Body 8.65 x 3.9 mm, Pitch 1.27 mm; Supplier 1: Digi-Key; Supplier Part Number 1: 296-3048-5-ND; Supplier 2: Farnell; Supplier Part Number 2: 8455716; Supplier 3: Newark; Supplier Part Number 3: 93K0565; Supplier 4: Newark; Supplier Part Number 4: 76C8933; Supplier 5: Mouser; Supplier Part Number 5: 595-TLV5620ID; Eco-Plan: Green (RoHS & no Sb/Br); Mounting Technology: Surface Mount; Code_JEDEC: MS-012; ComponentLink1Description: Manufacturer URL; ComponentLink1URL: http://www.ti.com/; ComponentLink2Description: Datasheet; ComponentLink2URL: http://www.ti.com/general/docs/lit/getliterature.tsp?genericPartNumber=TLV5620&fileType=pdf; ComponentLink3Description: Package Specification; ComponentLink3URL: http://www.ti.com/lit/ml/mpds177g/mpds177g.pdf
footprint TI-D14_N (SOIC, 14-Leads, Body 8.65x3.9mm, Pitch 1.27mm, IPC Medium Density)
footprint TI-D14_L (SOIC, 14-Leads, Body 8.65x3.9mm, Pitch 1.27mm, IPC High Density)
footprint TI-D14_M (SOIC, 14-Leads, Body 8.65x3.9mm, Pitch 1.27mm, IPC Low Density)
pins: 1 GND (power) "Ground return and reference", 2 REFA (in) "Reference voltage input to DAC A. This voltage defines the output analog range.", 3 REFB (in) "Reference voltage input to DAC B. This voltage defines the output analog range.", 4 REFC (in) "Reference voltage input to DAC C. This voltage defines the output analog range.", 5 REFD (in) "Reference voltage input to DAC D. This voltage defines the output analog range.", 6 DATA (in) "Serial interface digital data input. The digital code for the DAC is clocked into the serial interface register serially. Each data bit is clocked into the register on the falling edge of the clock signal.", 7 CLK (in) "Serial interface clock. The input digital data is shifted into the serial interface register on the falling edge of the clock applied to the CLK terminal.", 8 LOAD (in) "Serial interface load control. When the LDAC terminal is low, the falling edge of the LOAD signal latches the digital data into the output latch and immediately produces the analog voltage at the DAC output terminal.", 9 DACD (out) "DAC D analog output", 10 DACC (out) "DAC C analog output", 11 DACB (out) "DAC B analog output", 12 DACA (out) "DAC A analog output", 13 LDAC (in) "Load DAC. When this signal is high, no DAC output updates occur when the input digital data is read into the serial interface. The DAC outputs are only updated when LDAC is taken from high to low.", 14 VDD (power) "Positive supply voltage"

## TLV5620IDG4
designator U?
8-Bit, 10 us DAC, Serial Input, Quad DAC, Programmable 1 x or 2 x Output, Simultaneous Update, -40 to 85 degC, 14-pin SOIC (D14), Green (RoHS & no Sb/Br); Manufacturer: Texas Instruments; PartNumber: TLV5620IDG4; DAC Channels: 4; DNL(Max)(+/-LSB): 0.9; INL(Max)(+/-LSB): 1; Interface: Serial SPI; Power Consumption(Typ)(mW): 6; Resolution(Bits): 8; Settling Time(us): 10; SubFamily: Precision DAC (=<10MSPS); DatasheetVersion: SLAS110B; PackageVersion: 4040047-5/M, 06/2011; PackageReference: D14; PackageDescription: 14-Pin Plastic Small Outline, Body 8.65 x 3.9 mm, Pitch 1.27 mm; Supplier 1: Digi-Key; Supplier Part Number 1: TLV5620IDG4-ND; Supplier 2: Mouser; Supplier Part Number 2: 595-TLV5620IDG4; Eco-Plan: Green (RoHS & no Sb/Br); Mounting Technology: Surface Mount; Code_JEDEC: MS-012; ComponentLink1Description: Manufacturer URL; ComponentLink1URL: http://www.ti.com/; ComponentLink2Description: Datasheet; ComponentLink2URL: http://www.ti.com/general/docs/lit/getliterature.tsp?genericPartNumber=TLV5620&fileType=pdf; ComponentLink3Description: Package Specification; ComponentLink3URL: http://www.ti.com/lit/ml/mpds177g/mpds177g.pdf
footprint TI-D14_N (SOIC, 14-Leads, Body 8.65x3.9mm, Pitch 1.27mm, IPC Medium Density)
footprint TI-D14_L (SOIC, 14-Leads, Body 8.65x3.9mm, Pitch 1.27mm, IPC High Density)
footprint TI-D14_M (SOIC, 14-Leads, Body 8.65x3.9mm, Pitch 1.27mm, IPC Low Density)
pins: 1 GND (power) "Ground return and reference", 2 REFA (in) "Reference voltage input to DAC A. This voltage defines the output analog range.", 3 REFB (in) "Reference voltage input to DAC B. This voltage defines the output analog range.", 4 REFC (in) "Reference voltage input to DAC C. This voltage defines the output analog range.", 5 REFD (in) "Reference voltage input to DAC D. This voltage defines the output analog range.", 6 DATA (in) "Serial interface digital data input. The digital code for the DAC is clocked into the serial interface register serially. Each data bit is clocked into the register on the falling edge of the clock signal.", 7 CLK (in) "Serial interface clock. The input digital data is shifted into the serial interface register on the falling edge of the clock applied to the CLK terminal.", 8 LOAD (in) "Serial interface load control. When the LDAC terminal is low, the falling edge of the LOAD signal latches the digital data into the output latch and immediately produces the analog voltage at the DAC output terminal.", 9 DACD (out) "DAC D analog output", 10 DACC (out) "DAC C analog output", 11 DACB (out) "DAC B analog output", 12 DACA (out) "DAC A analog output", 13 LDAC (in) "Load DAC. When this signal is high, no DAC output updates occur when the input digital data is read into the serial interface. The DAC outputs are only updated when LDAC is taken from high to low.", 14 VDD (power) "Positive supply voltage"

## TLV5620IDR
designator U?
8-Bit, 10 us DAC, Serial Input, Quad DAC, Programmable 1 x or 2 x Output, Simultaneous Update, -40 to 85 degC, 14-pin SOIC (D14), Green (RoHS & no Sb/Br); Manufacturer: Texas Instruments; PartNumber: TLV5620IDR; DAC Channels: 4; DNL(Max)(+/-LSB): 0.9; INL(Max)(+/-LSB): 1; Interface: Serial SPI; Power Consumption(Typ)(mW): 6; Resolution(Bits): 8; Settling Time(us): 10; SubFamily: Precision DAC (=<10MSPS); DatasheetVersion: SLAS110B; PackageVersion: 4040047-5/M, 06/2011; PackageReference: D14; PackageDescription: 14-Pin Plastic Small Outline, Body 8.65 x 3.9 mm, Pitch 1.27 mm; Supplier 1: Digi-Key; Supplier Part Number 1: TLV5620IDR-ND; Supplier 2: Mouser; Supplier Part Number 2: 595-TLV5620IDR; Eco-Plan: Green (RoHS & no Sb/Br); Mounting Technology: Surface Mount; Code_JEDEC: MS-012; ComponentLink1Description: Manufacturer URL; ComponentLink1URL: http://www.ti.com/; ComponentLink2Description: Datasheet; ComponentLink2URL: http://www.ti.com/general/docs/lit/getliterature.tsp?genericPartNumber=TLV5620&fileType=pdf; ComponentLink3Description: Package Specification; ComponentLink3URL: http://www.ti.com/lit/ml/mpds177g/mpds177g.pdf
footprint TI-D14_N (SOIC, 14-Leads, Body 8.65x3.9mm, Pitch 1.27mm, IPC Medium Density)
footprint TI-D14_L (SOIC, 14-Leads, Body 8.65x3.9mm, Pitch 1.27mm, IPC High Density)
footprint TI-D14_M (SOIC, 14-Leads, Body 8.65x3.9mm, Pitch 1.27mm, IPC Low Density)
pins: 1 GND (power) "Ground return and reference", 2 REFA (in) "Reference voltage input to DAC A. This voltage defines the output analog range.", 3 REFB (in) "Reference voltage input to DAC B. This voltage defines the output analog range.", 4 REFC (in) "Reference voltage input to DAC C. This voltage defines the output analog range.", 5 REFD (in) "Reference voltage input to DAC D. This voltage defines the output analog range.", 6 DATA (in) "Serial interface digital data input. The digital code for the DAC is clocked into the serial interface register serially. Each data bit is clocked into the register on the falling edge of the clock signal.", 7 CLK (in) "Serial interface clock. The input digital data is shifted into the serial interface register on the falling edge of the clock applied to the CLK terminal.", 8 LOAD (in) "Serial interface load control. When the LDAC terminal is low, the falling edge of the LOAD signal latches the digital data into the output latch and immediately produces the analog voltage at the DAC output terminal.", 9 DACD (out) "DAC D analog output", 10 DACC (out) "DAC C analog output", 11 DACB (out) "DAC B analog output", 12 DACA (out) "DAC A analog output", 13 LDAC (in) "Load DAC. When this signal is high, no DAC output updates occur when the input digital data is read into the serial interface. The DAC outputs are only updated when LDAC is taken from high to low.", 14 VDD (power) "Positive supply voltage"

## TLV5620IDRG4
designator U?
8-Bit, 10 us DAC, Serial Input, Quad DAC, Programmable 1 x or 2 x Output, Simultaneous Update, -40 to 85 degC, 14-pin SOIC (D14), Green (RoHS & no Sb/Br); Manufacturer: Texas Instruments; PartNumber: TLV5620IDRG4; DAC Channels: 4; DNL(Max)(+/-LSB): 0.9; INL(Max)(+/-LSB): 1; Interface: Serial SPI; Power Consumption(Typ)(mW): 6; Resolution(Bits): 8; Settling Time(us): 10; SubFamily: Precision DAC (=<10MSPS); DatasheetVersion: SLAS110B; PackageVersion: 4040047-5/M, 06/2011; PackageReference: D14; PackageDescription: 14-Pin Plastic Small Outline, Body 8.65 x 3.9 mm, Pitch 1.27 mm; Supplier 1: Digi-Key; Supplier Part Number 1: TLV5620IDRG4-ND; Supplier 2: Mouser; Supplier Part Number 2: 595-TLV5620IDRG4; Eco-Plan: Green (RoHS & no Sb/Br); Mounting Technology: Surface Mount; Code_JEDEC: MS-012; ComponentLink1Description: Manufacturer URL; ComponentLink1URL: http://www.ti.com/; ComponentLink2Description: Datasheet; ComponentLink2URL: http://www.ti.com/general/docs/lit/getliterature.tsp?genericPartNumber=TLV5620&fileType=pdf; ComponentLink3Description: Package Specification; ComponentLink3URL: http://www.ti.com/lit/ml/mpds177g/mpds177g.pdf
footprint TI-D14_N (SOIC, 14-Leads, Body 8.65x3.9mm, Pitch 1.27mm, IPC Medium Density)
footprint TI-D14_L (SOIC, 14-Leads, Body 8.65x3.9mm, Pitch 1.27mm, IPC High Density)
footprint TI-D14_M (SOIC, 14-Leads, Body 8.65x3.9mm, Pitch 1.27mm, IPC Low Density)
pins: 1 GND (power) "Ground return and reference", 2 REFA (in) "Reference voltage input to DAC A. This voltage defines the output analog range.", 3 REFB (in) "Reference voltage input to DAC B. This voltage defines the output analog range.", 4 REFC (in) "Reference voltage input to DAC C. This voltage defines the output analog range.", 5 REFD (in) "Reference voltage input to DAC D. This voltage defines the output analog range.", 6 DATA (in) "Serial interface digital data input. The digital code for the DAC is clocked into the serial interface register serially. Each data bit is clocked into the register on the falling edge of the clock signal.", 7 CLK (in) "Serial interface clock. The input digital data is shifted into the serial interface register on the falling edge of the clock applied to the CLK terminal.", 8 LOAD (in) "Serial interface load control. When the LDAC terminal is low, the falling edge of the LOAD signal latches the digital data into the output latch and immediately produces the analog voltage at the DAC output terminal.", 9 DACD (out) "DAC D analog output", 10 DACC (out) "DAC C analog output", 11 DACB (out) "DAC B analog output", 12 DACA (out) "DAC A analog output", 13 LDAC (in) "Load DAC. When this signal is high, no DAC output updates occur when the input digital data is read into the serial interface. The DAC outputs are only updated when LDAC is taken from high to low.", 14 VDD (power) "Positive supply voltage"

## TLV5620IN
designator U?
8-Bit, 10 us DAC, Serial Input, Quad DAC, Programmable 1 x or 2 x Output, Simultaneous Update, -40 to 85 degC, 14-pin DIP (N14), Pb-Free (RoHS); Manufacturer: Texas Instruments; PartNumber: TLV5620IN; DAC Channels: 4; DNL(Max)(+/-LSB): 0.9; INL(Max)(+/-LSB): 1; Interface: Serial SPI; Power Consumption(Typ)(mW): 6; Resolution(Bits): 8; Settling Time(us): 10; SubFamily: Precision DAC (=<10MSPS); DatasheetVersion: SLAS110B; PackageVersion: 4040049/E, 12/2002; PackageReference: N14; PackageDescription: 14-Pin Plastic In-Line, Body 19.305 x 6.35 mm, Pitch 2.54 mm; Supplier 1: Digi-Key; Supplier Part Number 1: 296-3049-5-ND; Supplier 2: Mouser; Supplier Part Number 2: 595-TLV5620IN; Eco-Plan: Pb-Free (RoHS); Mounting Technology: Through Hole; Code_JEDEC: MS-001; ComponentLink1Description: Manufacturer URL; ComponentLink1URL: http://www.ti.com/; ComponentLink2Description: Datasheet; ComponentLink2URL: http://www.ti.com/general/docs/lit/getliterature.tsp?genericPartNumber=TLV5620&fileType=pdf; ComponentLink3Description: Package Specification; ComponentLink3URL: http://www.ti.com/lit/ml/mpdi002c/mpdi002c.pdf
footprint TI-N14 (DIP, 14-Leads, Body 19.305x6.35mm, Pitch 2.54mm)
pins: 1 GND (power) "Ground return and reference", 2 REFA (in) "Reference voltage input to DAC A. This voltage defines the output analog range.", 3 REFB (in) "Reference voltage input to DAC B. This voltage defines the output analog range.", 4 REFC (in) "Reference voltage input to DAC C. This voltage defines the output analog range.", 5 REFD (in) "Reference voltage input to DAC D. This voltage defines the output analog range.", 6 DATA (in) "Serial interface digital data input. The digital code for the DAC is clocked into the serial interface register serially. Each data bit is clocked into the register on the falling edge of the clock signal.", 7 CLK (in) "Serial interface clock. The input digital data is shifted into the serial interface register on the falling edge of the clock applied to the CLK terminal.", 8 LOAD (in) "Serial interface load control. When the LDAC terminal is low, the falling edge of the LOAD signal latches the digital data into the output latch and immediately produces the analog voltage at the DAC output terminal.", 9 DACD (out) "DAC D analog output", 10 DACC (out) "DAC C analog output", 11 DACB (out) "DAC B analog output", 12 DACA (out) "DAC A analog output", 13 LDAC (in) "Load DAC. When this signal is high, no DAC output updates occur when the input digital data is read into the serial interface. The DAC outputs are only updated when LDAC is taken from high to low.", 14 VDD (power) "Positive supply voltage"